# EAGLE library part 692121130100 (library Wurth_Elektronik_Electromechanic_Input-Output_Connectors_rev16b)
WR-COM USB 3.0 REVERSE HORIZONTAL TYPE A WITH OFFSET 0.14mm=>Code : Con_I-O_COM_USB-3.0_A_692121130100 <http://katalog.we-online.de/media/images/eican/Con_I-O_COM_USB-3.0_A_692121130100_pf2.jpg> Details see: http://katalog.we-online.de/en/em/692_121_130_100 Created 2014-07-09, Karrer Zheng 2014 (C) Würth Elektronik
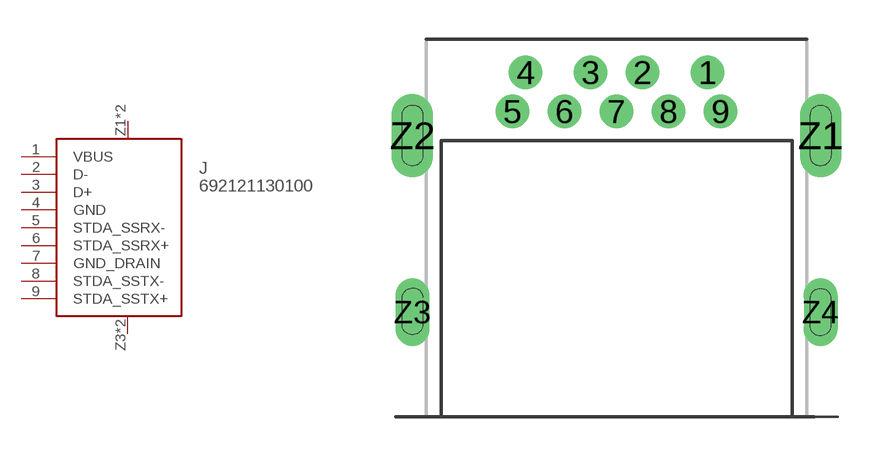
[diagram p83: symbol with the pads of 692121130100; footprint 692121130100]

Designator prefix J

## 692121130100  [692121130100]
1  VBUS
2  D-
3  D+
4  GND
5  STDA_SSRX-
6  STDA_SSRX+
7  GND_DRAIN
8  STDA_SSTX-
9  STDA_SSTX+
Z1  Z1
Z2  Z1
Z3  Z2
Z4  Z2

## Footprint 692121130100 (pad centres in mm)
WR-COM USB 3.0 REVERSE HORIZONTAL TYPE A WITH OFFSET 0.14mm
drill 0.7 pad 1.3: 1 3.5,0; 2 1,0; 3 -1,0; 4 -3.5,0; 5 -4,-1.5; 6 -2,-1.5; 7 0,-1.5; 8 2,-1.5; 9 4,-1.5
drill 0.8 pad 1.6 long: Z1 7.85,-2.43; Z2 -7.85,-2.43
drill 0.8 long: Z3 -7.85,-9.23; Z4 7.85,-9.23